# EAGLE library part AP68-08(10M0XSAU169C8G) (library TheMaker-HUMANDATA)
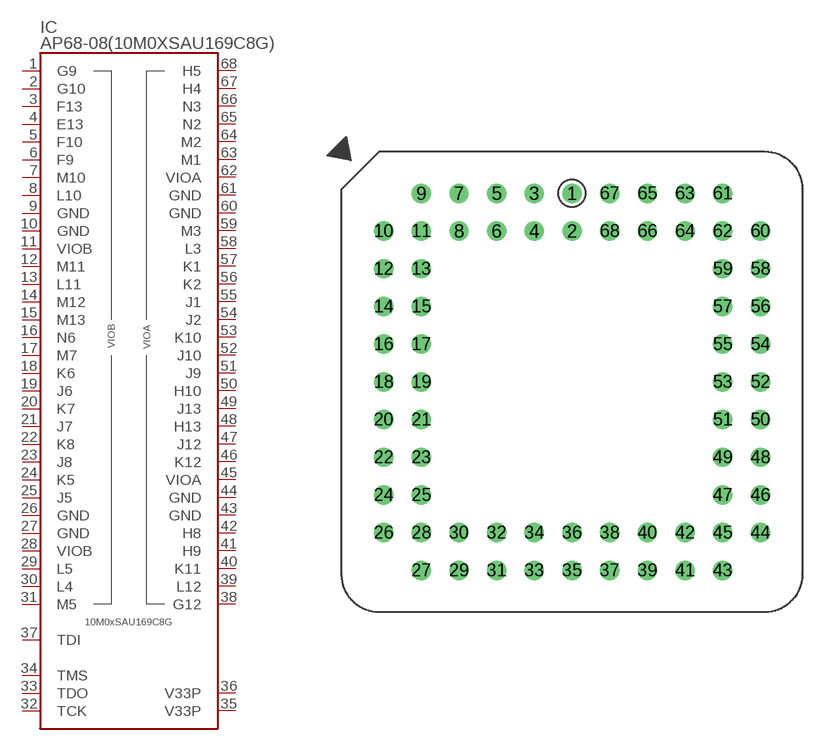
[diagram p0: symbol with the pads of PLCC68; footprint PLCC68]

Designator prefix IC

## AP68-08(10M0XSAU169C8G)  [PLCC68]
1  G9
2  G10
3  F13
4  E13
5  F10
6  F9
7  M10
8  L10
9  GND  pwr
10  GND  pwr
11  VIOB  pwr
12  M11
13  L11
14  M12
15  M13
16  N6
17  M7
18  K6
19  J6
20  K7
21  J7
22  K8
23  J8
24  K5
25  J5
26  GND  pwr
27  GND  pwr
28  VIOB  pwr
29  L5
30  L4
31  M5
32  TCK
33  TDO
34  TMS
35  V33P  pwr
36  V33P  pwr
37  TDI
38  G12
39  L12
40  K11
41  H9
42  H8
43  GND  pwr
44  GND  pwr
45  VIOA  pwr
46  K12
47  J12
48  H13
49  J13
50  H10
51  J9
52  J10
53  K10
54  J2
55  J1
56  K2
57  K1
58  L3
59  M3
60  GND  pwr
61  GND  pwr
62  VIOA  pwr
63  M1
64  M2
65  N2
66  N3
67  H4
68  H5

## Footprint PLCC68 (pad centres in mm)
HUMANDATA PLCC68 Series 3M Chip Carrier Sockets 8468-11B1-RK-TP 2016.05.30 TheMaker
drill 0.8: 1 0,12.7; 2 0,10.16; 3 -2.54,12.7; 4 -2.54,10.16; 5 -5.08,12.7; 6 -5.08,10.16; 7 -7.62,12.7; 8 -7.62,10.16; 9 -10.16,12.7; 10 -12.7,10.16; 11 -10.16,10.16; 12 -12.7,7.62; 13 -10.16,7.62; 14 -12.7,5.08; 15 -10.16,5.08; 16 -12.7,2.54; 17 -10.16,2.54; 18 -12.7,0; 19 -10.16,0; 20 -12.7,-2.54; 21 -10.16,-2.54; 22 -12.7,-5.08; 23 -10.16,-5.08; 24 -12.7,-7.62; 25 -10.16,-7.62; 26 -12.7,-10.16; 27 -10.16,-12.7; 28 -10.16,-10.16; 29 -7.62,-12.7; 30 -7.62,-10.16; 31 -5.08,-12.7; 32 -5.08,-10.16; 33 -2.54,-12.7; 34 -2.54,-10.16; 35 0,-12.7; 36 0,-10.16; 37 2.54,-12.7; 38 2.54,-10.16; 39 5.08,-12.7; 40 5.08,-10.16; 41 7.62,-12.7; 42 7.62,-10.16; 43 10.16,-12.7; 44 12.7,-10.16; 45 10.16,-10.16; 46 12.7,-7.62; 47 10.16,-7.62; 48 12.7,-5.08; 49 10.16,-5.08; 50 12.7,-2.54; 51 10.16,-2.54; 52 12.7,0; 53 10.16,0; 54 12.7,2.54; 55 10.16,2.54; 56 12.7,5.08; 57 10.16,5.08; 58 12.7,7.62; 59 10.16,7.62; 60 12.7,10.16; 61 10.16,12.7; 62 10.16,10.16; 63 7.62,12.7; 64 7.62,10.16; 65 5.08,12.7; 66 5.08,10.16; 67 2.54,12.7; 68 2.54,10.16